# Altium schematic symbol library PH2119BBA.SchLib: 1 symbol
Pins are listed as number, name and electrical type; pins without a type are passive.

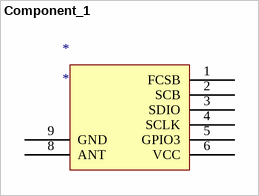
[diagram p0: symbol Component_1]

## Component_1
designator *
pins: 1 FCSB (hiz), 2 SCB (hiz), 3 SDIO (hiz), 4 SCLK (hiz), 5 GPIO3 (hiz), 6 VCC (hiz), 8 ANT (hiz), 9 GND (hiz)